# EAGLE library part OPA2650U (library burr-brown)
Dual Wideband, Low Power Voltage Feedback Operational Amplifier
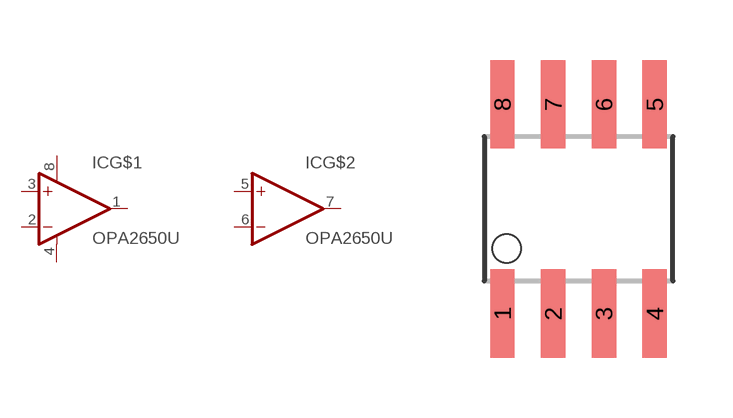
[diagram p153: symbol with the pads of SO-08; footprint SO-08]

Designator prefix IC; gates G$1=OP-AMP+- G$2=OP-AMP

## OPA2650U  [SO-08]
1  G$1:OUT  out
2  G$1:-IN  in
3  G$1:+IN  in
4  G$1:V-  pwr
5  G$2:+IN  in
6  G$2:-IN  in
7  G$2:OUT  out
8  G$1:V+  pwr

## Footprint SO-08 (pad centres in mm)
smd 0.61 x 2.21: 1 -1.905,-2.616; 2 -0.635,-2.616; 3 0.635,-2.616; 4 1.905,-2.616; 5 1.905,2.616; 6 0.635,2.616; 7 -0.635,2.616; 8 -1.905,2.616